# EAGLE library part SI7007-* (library si70xx-10)
Humidity/Temperature Sensor with PWM Output Source: http://www.silabs.com/Support%20Documents/TechnicalDocs/Si7007-A10.pdf
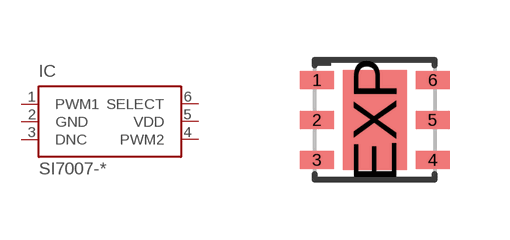
[diagram p5: symbol with the pads of DFN6-3X3; footprint DFN6-3X3]

Designator prefix IC

## SI7007-A10-IM (MF: Silicon Labs; MPN: Si7007-A10-IM; OC_FARNELL: unknown; OC_NEWARK: unknown), SI7007-A10-IM1 (MF: Silicon Labs; MPN: Si7007-A10-IM1; OC_FARNELL: unknown; OC_NEWARK: unknown)  [DFN6-3X3]
1  PWM1  out
2  GND  pwr
3  DNC  nc
4  PWM2  out
5  VDD  pwr
6  SELECT  in

## Footprint DFN6-3X3 (pad centres in mm)
6-Lead Plastic Dual Flat No Lead Package - 3x3 mm Body [DFN] Source: http://www.silabs.com/Support%20Documents/TechnicalDocs/Si7006-A10.pdf
smd 0.85 x 0.45: 1 -1.45,1; 2 -1.45,0; 3 -1.45,-1; 4 1.45,-1; 5 1.45,0; 6 1.45,1
smd 1.6 x 2.5: EXP 0,0